# EAGLE library part 24AA08-I/MS (library Microchip_By_element14_Batch_1)
2.5V,8 Kbit I2C Serial EEPROM
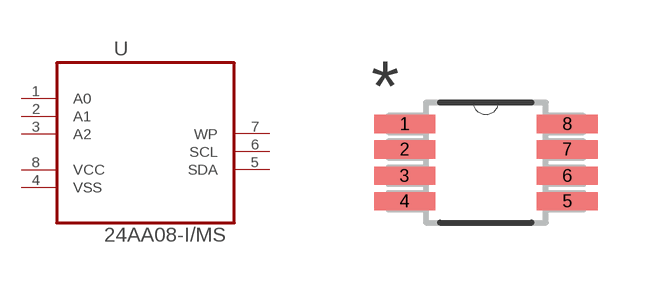
[diagram p2: symbol with the pads of SOP65P490X110-8N; footprint SOP65P490X110-8N]

Designator prefix U

## 24AA08-I/MS (MPN: 24AA08-I/MS; OC_FARNELL: 1331278; OC_NEWARK: 35M0699; PACKAGE: MSOP8; SUPPLIER: Microchip)  [SOP65P490X110-8N]
1  A0  nc
2  A1  nc
3  A2  nc
4  VSS  pas
5  SDA
6  SCL  in
7  WP  in
8  VCC  pwr

## Footprint SOP65P490X110-8N (pad centres in mm)
smd 1.524 x 0.457: 1 -2.032,0.965; 2 -2.032,0.33; 3 -2.032,-0.33; 4 -2.032,-0.965; 5 2.032,-0.965; 6 2.032,-0.33; 7 2.032,0.33; 8 2.032,0.965